# EAGLE library part TLV61220DBV (library C3-Ti)
Variable output Step-up DCDC Converter
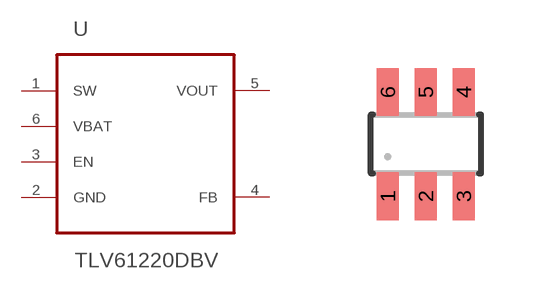
[diagram p4: symbol with the pads of SOT23-6; footprint SOT23-6]

Designator prefix U

## TLV61220DBV  [SOT23-6]
1  SW  in
2  GND  pwr
3  EN  in
4  FB  in
5  VOUT  pwr
6  VBAT  pwr

## Footprint SOT23-6 (pad centres in mm)
5-Lead Small Outline Transistor Package SOT-23 Source: http://www.analog.com/UploadedFiles/Data_Sheets/346131962AD8067_a.pdf
smd 0.55 x 1.2: 1 -0.95,-1.3; 2 0,-1.3; 3 0.95,-1.3; 4 0.95,1.3; 5 0,1.3; 6 -0.95,1.3